# Altium schematic symbol library EEEFN1V221V.SchLib: 1 symbol
Pins are listed as number, name and electrical type; pins without a type are passive.

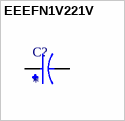
[diagram p0: symbol EEEFN1V221V]

## EEEFN1V221V
designator C?
MF: {'manufacturer': u'Panasonic'}; MP: EEEFN1V221V; Price: None; Value: *; Package: None; Availability: Unavailable
footprint CAP_EEEFN1V221V
pins: 1, 2